# Altium footprint library 6339168-1.PcbLib: 11 footprints
Each footprint in its own frame and in the unit in brackets; x right, y up, seen from the top. Pads: shape width x height; smd on the part's side, far side on the other; paste and mask are expansions set on the pad; w line width, h text height; cw(c..) or ccw(c..) is an arc to the next point about the centre after c.
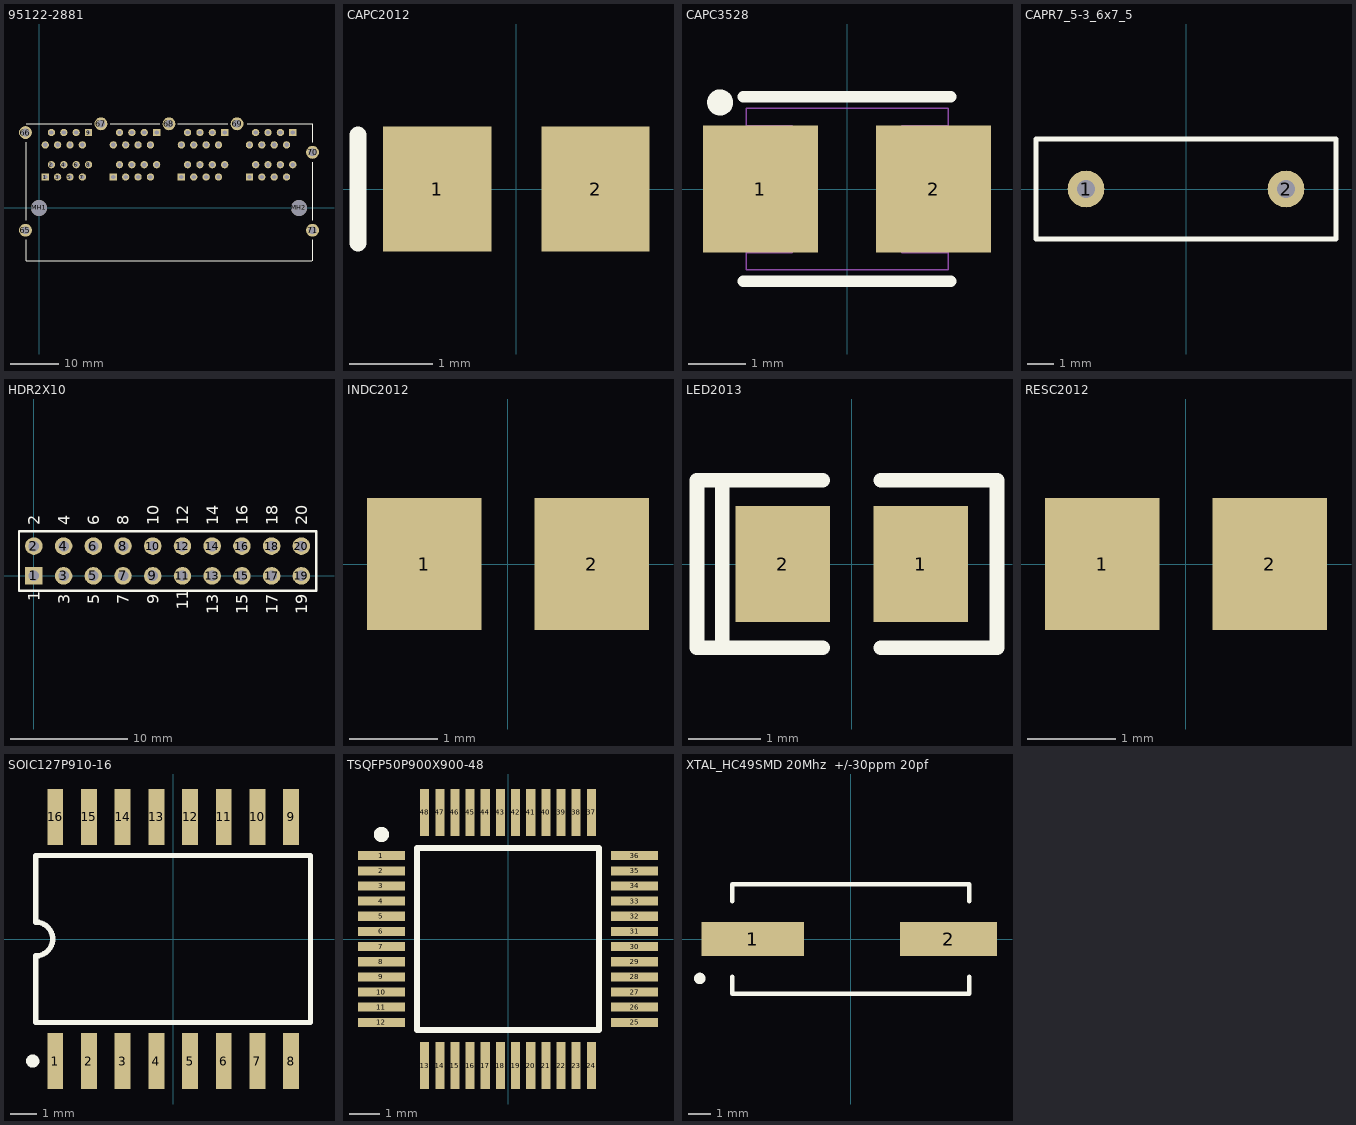
[diagram p0: the footprints below, top view; thin cyan lines are the x and y axes]

## 95122-2881 [mm]
pads (73):
  rect 1.5x1.5 hole 0.9: 1(1.27,6.35) 9(10.16,15.49) 17(15.24,6.35) 25(24.13,15.49) 33(29.21,6.35) 41(38.1,15.49) 49(43.18,6.35) 57(52.07,15.49)
  round 1.5 hole 0.9: 2(2.54,8.89) 3(3.81,6.35) 4(5.08,8.89) 5(6.35,6.35) 6(7.62,8.89) 7(8.89,6.35) 8(10.16,8.89) 10(8.89,12.95) 11(7.62,15.49) 12(6.35,12.95) 13(5.08,15.49) 14(3.81,12.95) 15(2.54,15.49) 16(1.27,12.95) 18(16.51,8.89) 19(17.78,6.35) 20(19.05,8.89) 21(20.32,6.35) 22(21.59,8.89) 23(22.86,6.35) 24(24.13,8.89) 26(22.86,12.95) 27(21.59,15.49) 28(20.32,12.95) 29(19.05,15.49) 30(17.78,12.95) 31(16.51,15.49) 32(15.24,12.95) 34(30.48,8.89) 35(31.75,6.35) 36(33.02,8.89) 37(34.29,6.35) 38(35.56,8.89) 39(36.83,6.35) 40(38.1,8.89) 42(36.83,12.95) 43(35.56,15.49) 44(34.29,12.95) 45(33.02,15.49) 46(31.75,12.95) 47(30.48,15.49) 48(29.21,12.95) 50(44.45,8.89) 51(45.72,6.35) 52(46.99,8.89) 53(48.26,6.35) 54(49.53,8.89) 55(50.8,6.35) 56(52.07,8.89) 58(50.8,12.95) 59(49.53,15.49) 60(48.26,12.95) 61(46.99,15.49) 62(45.72,12.95) 63(44.45,15.49) 64(43.18,12.95)
  round 2.65 hole 1.6: 65(-2.79,-4.57) 66(-2.79,15.49) 67(12.7,17.27) 68(26.67,17.27) 69(40.64,17.27) 70(56.13,11.43) 71(56.13,-4.57)
  round 3.25 hole 3.25 unplated: MH1(0,0) MH2(53.34,0)
Top Overlay:
  lines w0.2: -2.6,-10.8 -2.6,-6.5 ; -2.6,-2.5 -2.6,13.5 ; -2.6,17.3 10.8,17.3 ; -2.585,-10.8 56,-10.8 ; 14.6,17.3 24.8,17.3 ; 28.5,17.3 38.7,17.3 ; 42.7,17.3 56.13,17.3 ; 56.13,-10.8 56.13,-6.5 ; 56.13,-2.5 56.13,9.4 ; 56.13,13.5 56.13,17.2

## CAPC2012 [mm]
pads (2):
  rect 1.3x1.5 smd: 1(-0.95,0) 2(0.95,0)
Top Overlay:
  lines w0.2: -1.9,-0.65 -1.9,0.65
Mechanical 6:
  text ".Comment" at -1.452,0.025 h0.2
Mechanical 11:
  text ".Designator" at -1.452,0.025 h0.2

## CAPC3528 [mm]
pads (2):
  rect 2x2.2 smd: 1(-1.5,0) 2(1.5,0)
Top Overlay:
  circle w0.25: c-2.2,1.5 r0.1
  lines w0.2: -1.8,-1.6 1.8,-1.6 ; -1.8,1.6 1.8,1.6
Mechanical 6:
  text ".Comment" at -2.227,0.025 h0.2
Mechanical 11:
  text ".Designator" at -2.227,0.025 h0.2
Mechanical 15:
  lines w0.025: -1.748,-1.104 -0.948,-1.104 -0.948,1.096 -1.748,1.096 ; 1.752,-1.104 0.952,-1.104 0.952,1.096 1.752,1.096 ; -1.748,-1.404 1.752,-1.404 1.752,1.396 -1.748,1.396 -1.748,-1.404

## CAPR7_5-3_6x7_5 [mm]
pads (2):
  round 1.4 hole 0.7: 1(-3.81,0) 2(3.81,0)
Top Overlay:
  lines w0.2: -5.715,-1.905 -5.715,1.905 5.715,1.905 5.715,-1.905 -5.715,-1.905

## HDR2X10 [mm]
pads (20):
  rect 1.5x1.5 hole 0.9: 1(0,0)
  round 1.5 hole 0.9: 2(0,2.54) 3(2.54,0) 4(2.54,2.54) 5(5.08,0) 6(5.08,2.54) 7(7.62,0) 8(7.62,2.54) 9(10.16,0) 10(10.16,2.54) 11(12.7,0) 12(12.7,2.54) 13(15.24,0) 14(15.24,2.54) 15(17.78,0) 16(17.78,2.54) 17(20.32,0) 18(20.32,2.54) 19(22.86,0) 20(22.86,2.54)
Top Overlay:
  lines w0.2: -1.27,-1.27 -1.27,3.81 24.13,3.81 24.13,-1.27 -1.27,-1.27
  text "18" at 20.828,4.318 h1
  text "17" at 20.828,-3.302 h1
  text "14" at 15.748,4.318 h1
  text "13" at 15.748,-3.302 h1
  text "10" at 10.668,4.318 h1
  text "9" at 10.668,-2.413 h1
  text "8" at 8.128,4.318 h1
  text "7" at 8.128,-2.413 h1
  text "4" at 3.048,4.318 h1
  text "3" at 3.048,-2.413 h1
  text "5" at 5.588,-2.413 h1
  text "11" at 13.208,-2.921 h1
  text "15" at 18.288,-3.302 h1
  text "6" at 5.588,4.318 h1
  text "12" at 13.208,4.318 h1
  text "16" at 18.288,4.318 h1
  text "20" at 23.368,4.318 h1
  text "19" at 23.368,-3.302 h1
  text "1" at 0.508,-2.159 h1
  text "2" at 0.508,4.318 h1

## INDC2012 [mm]
pads (2):
  rect 1.3x1.5 smd: 1(-0.95,0) 2(0.95,0)
Mechanical 6:
  text ".Comment" at -1.427,0.025 h0.2
Mechanical 11:
  text ".Designator" at -1.427,0.025 h0.2

## LED2013 [mm]
pads (2):
  rect 1.3x1.6 smd: 1(0.95,0) 2(-0.95,0)
Top Overlay:
  lines w0.2: -1.78,-1.15 -1.78,1.15 ; -0.4,-1.15 -2.13,-1.15 -2.13,1.15 -0.4,1.15 ; 0.4,-1.15 2,-1.15 2,1.15 0.4,1.15

## RESC2012 [mm]
pads (2):
  rect 1.3x1.5 smd: 1(-0.95,0) 2(0.95,0)
Mechanical 6:
  text ".Comment" at -1.427,0.025 h0.2
Mechanical 11:
  text ".Designator" at -1.427,0.025 h0.2

## SOIC127P910-16 [mm]
height 1.35
pads (16):
  rect 0.6x2.1 smd: 1(-4.445,-4.6) 2(-3.175,-4.6) 3(-1.905,-4.6) 4(-0.635,-4.6) 5(0.635,-4.6) 6(1.905,-4.6) 7(3.175,-4.6) 8(4.445,-4.6) 9(4.445,4.6) 10(3.175,4.6) 11(1.905,4.6) 12(0.635,4.6) 13(-0.635,4.6) 14(-1.905,4.6) 15(-3.175,4.6) 16(-4.445,4.6)
Top Overlay:
  circle w0.25: c-5.295,-4.6 r0.125
  lines w0.2: -5.175,-3.15 -5.175,-0.635 ccw(c-5.175,0) -5.175,0.635 -5.175,3.15 5.175,3.15 5.175,-3.15 -5.175,-3.15

## TSQFP50P900X900-48 [mm]
height 1.35
pads (48):
  rect 1.55x0.3 smd: 1(-4.175,2.75) 2(-4.175,2.25) 3(-4.175,1.75) 4(-4.175,1.25) 5(-4.175,0.75) 6(-4.175,0.25) 7(-4.175,-0.25) 8(-4.175,-0.75) 9(-4.175,-1.25) 10(-4.175,-1.75) 11(-4.175,-2.25) 12(-4.175,-2.75) 25(4.175,-2.75) 26(4.175,-2.25) 27(4.175,-1.75) 28(4.175,-1.25) 29(4.175,-0.75) 30(4.175,-0.25) 31(4.175,0.25) 32(4.175,0.75) 33(4.175,1.25) 34(4.175,1.75) 35(4.175,2.25) 36(4.175,2.75)
  rect 0.3x1.55 smd: 13(-2.75,-4.175) 14(-2.25,-4.175) 15(-1.75,-4.175) 16(-1.25,-4.175) 17(-0.75,-4.175) 18(-0.25,-4.175) 19(0.25,-4.175) 20(0.75,-4.175) 21(1.25,-4.175) 22(1.75,-4.175) 23(2.25,-4.175) 24(2.75,-4.175) 37(2.75,4.175) 38(2.25,4.175) 39(1.75,4.175) 40(1.25,4.175) 41(0.75,4.175) 42(0.25,4.175) 43(-0.25,4.175) 44(-0.75,4.175) 45(-1.25,4.175) 46(-1.75,4.175) 47(-2.25,4.175) 48(-2.75,4.175)
Top Overlay:
  circle w0.25: c-4.175,3.45 r0.125
  lines w0.2: -3,-3 3,-3 3,3 -3,3 -3,-3

## XTAL_HC49SMD 20Mhz  +/-30ppm 20pf [mm]
pads (2):
  rect 4.5x1.5 smd: 1(-4.3,0)
  rect 4.25x1.5 smd: 2(4.3,0)
Top Overlay:
  circle w0.25: c-6.625,-1.73 r0.125
  lines w0.2: -5.2,-1.65 -5.2,-2.4 5.2,-2.4 5.2,-1.65 ; -5.2,1.65 -5.2,2.4 5.2,2.4 5.2,1.65